# Altium footprint library 11-Fuse.PcbLib: 50 footprints (part 2 of 4)
Each footprint in its own frame and in the unit in brackets; x right, y up, seen from the top. Pads: shape width x height; smd on the part's side, far side on the other; paste and mask are expansions set on the pad; w line width, h text height; cw(c..) or ccw(c..) is an arc to the next point about the centre after c.
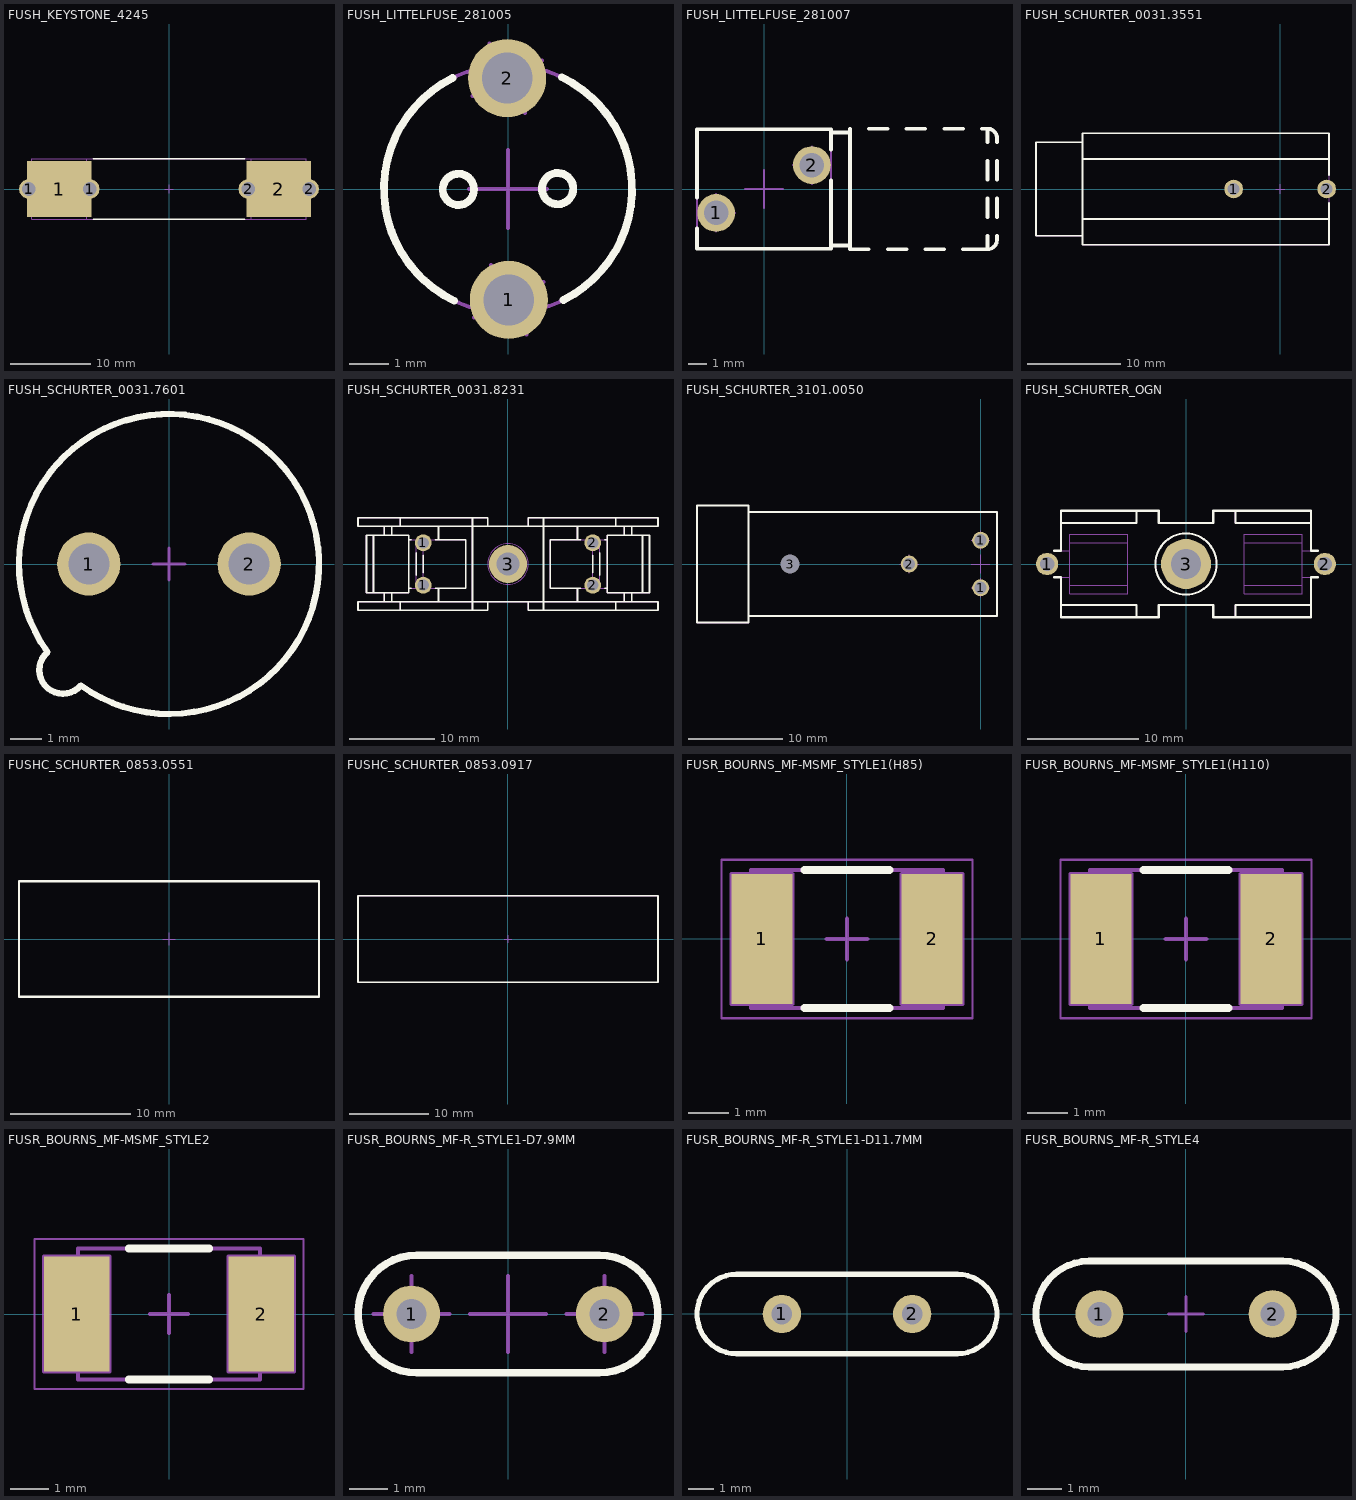
[diagram p1: the footprints below, top view; thin cyan lines are the x and y axes]

## FUSH_KEYSTONE_4245 [mm] "FUSH_KEYSTONE 4245, Fuse holder for 6..3x32mm Fuses"
height 10.92
pads (6):
  round 2.4 hole 1.7: 1(-17.463,0) 1(-9.843,0) 2(9.843,0) 2(17.463,0)
  rect 8x7 smd paste-4 mask-4: 1(-13.653,0) 2(13.653,0)
Top Overlay:
  lines w0.2: -9.4,-3.75 9.4,-3.75 ; -9.4,3.75 9.4,3.75
Mechanical 8:
  lines w0.1: -17.963,0 -17.463,0 ; -17.463,-0.5 -17.463,0 ; -17.463,0.5 -17.463,0 ; -16.963,0 -17.463,0 ; -10.343,0 -9.843,0 ; -9.843,-0.5 -9.843,0 ; -9.843,0.5 -9.843,0 ; -9.343,0 -9.843,0 ; -0.5,0 0,0 ; 0,-0.5 0,0 ; 0,0.5 0,0 ; 0.5,0 0,0 ; 9.343,0 9.843,0 ; 9.843,-0.5 9.843,0 ; 9.843,0.5 9.843,0 ; 10.343,0 9.843,0 ; 16.963,0 17.463,0 ; 17.463,-0.5 17.463,0 ; 17.463,0.5 17.463,0 ; 17.963,0 17.463,0
Mechanical 14:
  lines w0.1: -10.205,-3.75 -10.205,3.75 ; 10.205,-3.75 10.205,3.75 ; -17.1,-3.75 17.1,-3.75 17.1,3.75 -17.1,3.75 -17.1,-3.75
3D body "FUSH_KEYSTONE_4245.stp": height 12.87, standoff -3.7, extent -17.716,-3.824 17.717,3.824

## FUSH_LITTELFUSE_281005 [mm] "Vertical Fuse Holder For 6.4x8.8mm Subminiature Fuses"
height 6.65
pads (2):
  round 2 hole 1.3: 1(0.022,-2.84) 2(-0.022,2.84)
Top Overlay:
  circle w0.2: c-1.27,-0.01 r0.4
  circle w0.2: c1.27,0.01 r0.4
  lines w0.2: -1.422,2.839 ccw(c0,0) -1.378,-2.86 ; 1.378,2.86 cw(c0,0) 1.422,-2.839
Mechanical 8:
  lines w0.1: -1,0 0,0 ; -0.913,2.386 -0.022,2.84 ; -0.869,-3.294 0.022,-2.84 ; -0.476,3.731 -0.022,2.84 ; -0.432,-1.949 0.022,-2.84 ; 0,-1 0,0 ; 0,1 0,0 ; 0.432,1.949 -0.022,2.84 ; 0.476,-3.731 0.022,-2.84 ; 0.869,3.294 -0.022,2.84 ; 0.913,-2.386 0.022,-2.84 ; 1,0 0,0
Mechanical 14:
  circle w0.1: c-1.27,-0.01 r0.4
  circle w0.1: c1.27,0.01 r0.4
  lines w0.1: -0.456,3.142 ccw(c0,0) -0.089,-3.174 ; 0.089,3.174 cw(c0,0) 0.456,-3.142 ; -0.508,3.243 -0.062,3.47 0.465,2.436 0.019,2.209 -0.508,3.243 ; -0.465,-2.436 0.062,-3.47 0.508,-3.243 -0.019,-2.209 -0.465,-2.436
3D body "FUSH_LITTELFUSE_281005.stp": height 6.65, standoff -5.08, extent -3.173,-3.47 3.173,3.47
3D body "v200-130.stp": height 0.02, standoff -1.65, extent -1.022,1.84 0.978,3.84
3D body "v200-130.stp": height 0.02, standoff -1.65, extent -0.978,-3.84 1.022,-1.84

## FUSH_LITTELFUSE_281007 [mm] "Horizontal Fuse Holder For 6.4x8.8mm Subminiature Fuses"
height 6.6
pads (2):
  round 2 hole 1.3: 1(-2.54,-1.27) 2(2.54,1.27)
Top Overlay:
  lines w0.2: -3.556,-2.081 -3.556,-3.175 3.556,-3.175 3.556,0.459 ; -3.556,-0.459 -3.556,3.175 3.556,3.175 3.556,2.081 ; 3.556,-3 4.556,-3 ; 3.556,3 4.556,3 ; 4.556,3.2 4.556,-3.2 5.556,-3.2 ; 5.556,3.2 6.556,3.2 ; 6.556,-3.2 7.556,-3.2 ; 7.556,3.2 8.556,3.2 ; 8.556,-3.2 9.556,-3.2 ; 9.556,3.2 10.556,3.2 ; 10.556,-3.2 11.856,-3.2 ; 11.556,3.2 11.856,3.2 ; 11.856,-2.5 11.856,-3.2 ; 11.856,-1.5 11.856,-0.5 ; 11.856,0.5 11.856,1.5 ; 11.856,2.5 11.856,3.2 ; 12.356,-2.5 12.356,-2.7 cw(c11.856,-2.7) 11.856,-3.2 ; 12.356,-1.5 12.356,-0.5 ; 12.356,0.5 12.356,1.5 ; 12.356,2.5 12.356,2.7 ccw(c11.856,2.7) 11.856,3.2
Mechanical 8:
  lines w0.1: -3.54,-1.27 -2.54,-1.27 ; -2.54,-2.27 -2.54,-1.27 ; -2.54,-0.27 -2.54,-1.27 ; -1.54,-1.27 -2.54,-1.27 ; -1,0 0,0 ; 0,-1 0,0 ; 0,1 0,0 ; 1,0 0,0 ; 1.54,1.27 2.54,1.27 ; 2.54,0.27 2.54,1.27 ; 2.54,2.27 2.54,1.27 ; 3.54,1.27 2.54,1.27
Mechanical 14:
  lines w0.1: 3.556,-3 4.556,-3 ; 3.556,3 4.556,3 ; 4.556,3.2 4.556,-3.2 5.556,-3.2 ; 5.556,3.2 6.556,3.2 ; 6.556,-3.2 7.556,-3.2 ; 7.556,3.2 8.556,3.2 ; 8.556,-3.2 9.556,-3.2 ; 9.556,3.2 10.556,3.2 ; 10.556,-3.2 11.856,-3.2 ; 11.556,3.2 11.856,3.2 ; 11.856,-2.5 11.856,-3.2 ; 11.856,-1.5 11.856,-0.5 ; 11.856,0.5 11.856,1.5 ; 11.856,2.5 11.856,3.2 ; 12.356,-2.5 12.356,-2.7 cw(c11.856,-2.7) 11.856,-3.2 ; 12.356,-1.5 12.356,-0.5 ; 12.356,0.5 12.356,1.5 ; 12.356,2.5 12.356,2.7 ccw(c11.856,2.7) 11.856,3.2 ; -3.556,-3.175 -3.556,3.175 3.556,3.175 3.556,-3.175 -3.556,-3.175
3D body "FUSH_LITTELFUSE_281007.stp": height 6.6, standoff -5.08, extent -3.556,-3.175 3.556,3.175

## FUSH_SCHURTER_0031.3551 [mm] "SCHURTER Type FAB, Horizontal Fuse holder for 5x20mm Fuses"
height 10.16
pads (2):
  round 2 hole 1.3: 1(-5,0) 2(5,0)
Top Overlay:
  lines w0.2: -21.25,-5.03 -26.25,-5.03 -26.25,5.03 -21.25,5.03 ; -21.25,-3.224 5.25,-3.224 ; -21.25,3.224 5.25,3.224 ; 5.25,-1.5 5.25,-6 -21.25,-6 -21.25,6 5.25,6 5.25,1.5
Mechanical 8:
  lines w0.1: -5.5,0 -5,0 ; -5,-0.5 -5,0 ; -5,0.5 -5,0 ; -4.5,0 -5,0 ; -0.5,0 0,0 ; 0,-0.5 0,0 ; 0,0.5 0,0 ; 0.5,0 0,0 ; 4.5,0 5,0 ; 5,-0.5 5,0 ; 5,0.5 5,0 ; 5.5,0 5,0
Mechanical 14:
  lines w0.1: -21.25,-5.03 -26.25,-5.03 -26.25,5.03 -21.25,5.03 ; -21.25,-3.224 5.25,-3.224 ; -21.25,3.224 5.25,3.224 ; -21.25,-6 5.25,-6 5.25,6 -21.25,6 -21.25,-6
3D body "FUSH_SCHURTER_0031.3551.stp": height 10.06, standoff -5, extent -26.25,-6 5.25,6

## FUSH_SCHURTER_0031.7601 [mm] "Vertical Fuse Holder For D8.5x H 8.5mm Subminiature Fuses"
height 4.4
pads (2):
  round 2 hole 1.3: 1(-2.54,0) 2(2.54,0)
Top Overlay:
  lines w0.2: -3.846,-2.789 cw(c0,0) -2.789,-3.846 cw(c-3.359,-3.359) -3.846,-2.789
Mechanical 8:
  lines w0.1: -3.04,0 -2.54,0 ; -2.54,-0.5 -2.54,0 ; -2.54,0.5 -2.54,0 ; -2.04,0 -2.54,0 ; -0.5,0 0,0 ; 0,-0.5 0,0 ; 0,0.5 0,0 ; 0.5,0 0,0 ; 2.04,0 2.54,0 ; 2.54,-0.5 2.54,0 ; 2.54,0.5 2.54,0 ; 3.04,0 2.54,0
Mechanical 14:
  circle w0.1: c-2.54,0 r0.55
  circle w0.1: c2.54,0 r0.55
  lines w0.1: -3.846,-2.789 cw(c0,0) -2.789,-3.846 cw(c-3.359,-3.359) -3.846,-2.789
3D body "FUSH_SCHURTER_0031.7601.stp": height 4.4, standoff -3.2, extent -4.75,-4.748 4.75,4.749

## FUSH_SCHURTER_0031.8231 [mm] "SCHURTER OGD Series, Fuse holder for 5x20mm/6.3x32mm Fuses"
height 11.5
pads (5):
  round 2 hole 1.3: 1(-10,-2.5) 1(-10,2.5) 2(10,-2.5) 2(10,2.5)
  round 4.5 hole 2.7: 3(0,0)
Top Overlay:
  lines w0.2: -15.875,-3.375 -15.875,3.375 ; -14.6,-4.45 -14.6,-3.375 ; -14.6,3.375 -14.6,4.45 ; -13.7,-4.45 -13.7,-3.375 ; -13.7,3.375 -13.7,4.45 ; -12.7,-5.45 -12.7,-4.45 ; -12.7,4.45 -12.7,5.45 ; -11.7,-2.878 -11.4,-2.878 ; -11.7,2.878 -11.4,2.878 ; -10.825,-1.308 -10.825,1.308 ; -10,-1.05 -10,1.05 ; -8.6,-2.878 -5,-2.878 -5,2.878 -8.6,2.878 ; -8.2,-4.45 -8.2,-2.878 ; -8.2,2.878 -8.2,4.45 ; -4.2,-5.45 -4.2,5.45 ; 4.2,-5.45 4.2,5.45 ; 8.2,-4.45 8.2,-2.878 ; 8.2,2.878 8.2,4.45 ; 8.6,-2.878 5,-2.878 5,2.878 8.6,2.878 ; 10,-1.05 10,1.05 ; 10.825,-1.308 10.825,1.308 ; 11.4,-2.878 11.7,-2.878 ; 11.4,2.878 11.7,2.878 ; 12.7,-5.45 12.7,-4.45 ; 12.7,4.45 12.7,5.45 ; 13.7,-4.45 13.7,-3.375 ; 13.7,3.375 13.7,4.45 ; 14.6,-4.45 14.6,-3.375 ; 14.6,3.375 14.6,4.45 ; 15.875,-3.375 15.875,3.375 ; -2.4,-4.45 2.4,-4.45 ; -2.4,-4.45 -2.4,-5.45 -17.7,-5.45 -17.7,-4.45 -2.4,-4.45 ; -2.4,4.45 -17.7,4.45 -17.7,5.45 -2.4,5.45 -2.4,4.45 ; -2.4,4.45 2.4,4.45 ; 2.4,-4.45 17.7,-4.45 17.7,-5.45 2.4,-5.45 2.4,-4.45 ; 2.4,4.45 17.7,4.45 17.7,5.45 2.4,5.45 2.4,4.45 ; -16.7,-3.375 -11.7,-3.375 -11.7,3.375 -16.7,3.375 -16.7,-3.375 ; 11.7,-3.375 11.7,3.375 16.7,3.375 16.7,-3.375 11.7,-3.375
Mechanical 8:
  lines w0.1: -10.5,-2.5 -10,-2.5 ; -10.5,2.5 -10,2.5 ; -10,-3 -10,-2.5 ; -10,-2 -10,-2.5 ; -10,2 -10,2.5 ; -10,3 -10,2.5 ; -9.5,-2.5 -10,-2.5 ; -9.5,2.5 -10,2.5 ; -0.5,0 0,0 ; 0,-0.5 0,0 ; 0,0.5 0,0 ; 0.5,0 0,0 ; 9.5,-2.5 10,-2.5 ; 9.5,2.5 10,2.5 ; 10,-3 10,-2.5 ; 10,-2 10,-2.5 ; 10,2 10,2.5 ; 10,3 10,2.5 ; 10.5,-2.5 10,-2.5 ; 10.5,2.5 10,2.5
Mechanical 14:
  circle w0.1: c0,0 r2.4
  circle w0.1: c0,0 r1.35
  lines w0.1: -15.875,-3.375 -15.875,3.375 ; -14.6,-4.45 -14.6,-3.375 ; -14.6,3.375 -14.6,4.45 ; -13.7,-4.45 -13.7,-3.375 ; -13.7,3.375 -13.7,4.45 ; -12.7,-5.45 -12.7,-4.45 ; -12.7,4.45 -12.7,5.45 ; -11.7,-2.878 -10.825,-2.878 ; -11.7,2.878 -10.825,2.878 ; -10,-2.896 -10,2.878 ; -8.2,-4.45 -8.2,-2.878 ; -8.2,2.878 -8.2,4.45 ; -4.2,-5.45 -4.2,5.45 ; 4.2,-5.45 4.2,5.45 ; 8.2,-4.45 8.2,-2.878 ; 8.2,2.878 8.2,4.45 ; 10,-2.896 10,2.878 ; 11.7,-2.878 10.825,-2.878 ; 11.7,2.878 10.825,2.878 ; 12.7,-5.45 12.7,-4.45 ; 12.7,4.45 12.7,5.45 ; 13.7,-4.45 13.7,-3.375 ; 13.7,3.375 13.7,4.45 ; 14.6,-4.45 14.6,-3.375 ; 14.6,3.375 14.6,4.45 ; 15.875,-3.375 15.875,3.375 ; -10.825,-2.878 -5,-2.878 -5,2.878 -10.825,2.878 ; -10.825,-2.878 -10.825,2.878 ; -2.4,-4.45 2.4,-4.45 ; -2.4,-4.45 -2.4,-5.45 -17.7,-5.45 -17.7,-4.45 -2.4,-4.45 ; -2.4,4.45 -17.7,4.45 -17.7,5.45 -2.4,5.45 -2.4,4.45 ; -2.4,4.45 2.4,4.45 ; 2.4,-4.45 17.7,-4.45 17.7,-5.45 2.4,-5.45 2.4,-4.45 ; 2.4,4.45 17.7,4.45 17.7,5.45 2.4,5.45 2.4,4.45 ; 10.825,-2.878 5,-2.878 5,2.878 10.825,2.878 ; 10.825,-2.878 10.825,2.878 ; -16.7,-3.375 -11.7,-3.375 -11.7,3.375 -16.7,3.375 -16.7,-3.375 ; 11.7,-3.375 11.7,3.375 16.7,3.375 16.7,-3.375 11.7,-3.375
3D body "FUSH_SCHURTER_0031.8231.stp": height 12.7, standoff -3.13, extent -17.7,-5.45 17.7,5.45

## FUSH_SCHURTER_3101.0050 [mm] "SCHURTER Type FPG5, Horizontal Fuse holder for 5x20mm Fuses"
height 12.7
pads (4):
  round 1.8 hole 1.3: 1(0,-2.54) 1(0,2.54) 2(-7.62,0)
  round 1.8 hole 2 unplated mask+0.2: 3(-20.32,0)
Top Overlay:
  lines w0.2: -24.75,-5.55 1.75,-5.55 1.75,5.55 -24.75,5.55 ; -30.25,-6.25 -24.75,-6.25 -24.75,6.25 -30.25,6.25 -30.25,-6.25
Mechanical 8:
  lines w0.1: -21.32,0 -20.32,0 ; -20.32,-1 -20.32,0 ; -20.32,1 -20.32,0 ; -19.32,0 -20.32,0 ; -8.62,0 -7.62,0 ; -7.62,-1 -7.62,0 ; -7.62,1 -7.62,0 ; -6.62,0 -7.62,0 ; -1,-2.54 0,-2.54 ; -1,0 0,0 ; -1,2.54 0,2.54 ; 0,-3.54 0,-2.54 ; 0,-1.54 0,-2.54 ; 0,-1 0,0 ; 0,1 0,0 ; 0,1.54 0,2.54 ; 0,3.54 0,2.54 ; 1,-2.54 0,-2.54 ; 1,0 0,0 ; 1,2.54 0,2.54
Mechanical 14:
  lines w0.1: -24.75,-5.55 1.75,-5.55 1.75,5.55 -24.75,5.55 ; -30.25,-6.25 -24.75,-6.25 -24.75,6.25 -30.25,6.25 -30.25,-6.25
3D body "FUSH_SCHURTER_3101.0050.stp": height 12.7, standoff -3.6, extent -30.25,-6.25 1.75,6.25

## FUSH_SCHURTER_OGN [mm] "SCHURTER OGN Series, Fuse holder for 5x20mm Fuses"
height 11.5
pads (3):
  round 2 hole 1.3: 1(-12.5,0) 2(12.5,0)
  round 4.5 hole 2.7: 3(0,0)
Top Overlay:
  circle w0.2: c0,0 r2.75
  lines w0.2: -11.85,-1.2 -11.25,-1.2 -11.25,-4.8 -2.45,-4.8 -2.45,-3.7 2.45,-3.7 2.45,-4.8 11.25,-4.8 ; -11.85,1.2 -11.25,1.2 -11.25,4.8 -2.45,4.8 -2.45,3.7 2.45,3.7 2.45,4.8 11.25,4.8 11.25,1.2 11.85,1.2 ; -11.25,-3.7 -4.45,-3.7 -4.45,-4.8 ; -11.25,3.7 -4.45,3.7 -4.45,4.8 ; 4.45,-4.8 4.45,-3.7 11.25,-3.7 11.25,-4.8 ; 4.45,4.8 4.45,3.7 11.25,3.7 ; 11.85,-1.2 11.25,-1.2 11.25,-4.8
Mechanical 14:
  circle w0.1: c0,0 r2.75
  lines w0.1: -11.85,-1.2 -10.45,-1.2 ; -11.85,1.2 -10.45,1.2 -10.45,0 ; -11.25,-3.7 -4.45,-3.7 -4.45,-4.8 ; -11.25,-1.2 -11.25,-4.8 -2.45,-4.8 -2.45,-3.7 2.45,-3.7 2.45,-4.8 11.25,-4.8 ; -11.25,1.2 -11.25,4.8 -2.45,4.8 -2.45,3.7 2.45,3.7 2.45,4.8 11.25,4.8 11.25,1.2 ; -11.25,3.7 -4.45,3.7 -4.45,4.8 ; -10.45,-1.9 -5.25,-1.9 ; -10.45,1.9 -5.25,1.9 ; 4.45,-4.8 4.45,-3.7 11.25,-3.7 11.25,-4.8 ; 4.45,4.8 4.45,3.7 11.25,3.7 ; 5.25,-1.9 10.45,-1.9 ; 5.25,1.9 10.45,1.9 ; 10.45,0 10.45,-1.2 11.85,-1.2 ; 10.45,1.2 11.85,1.2 ; 11.25,-1.2 11.25,-4.8 ; -10.45,-2.7 -5.25,-2.7 -5.25,2.7 -10.45,2.7 -10.45,-2.7 ; 5.25,-2.7 10.45,-2.7 10.45,2.7 5.25,2.7 5.25,-2.7
3D body: height 2.5, standoff -3, extent -12.8,-0.4 -12.575,0.4
3D body "FUSH_SCHURTER_OGN.stp": height 11.5, standoff -3.8, extent -12.65,-4.8 12.65,4.8

## FUSHC_SCHURTER_0853.0551 [mm] "Cover for Fuse Holder OGN, OGN-SMD"
height 14.7
Top Overlay:
  lines w0.2: -12.5,-4.8 -12.5,4.8 12.5,4.8 12.5,-4.8 -12.5,-4.8
Mechanical 8:
  lines w0.1: -0.5,0 0,0 ; 0,-0.5 0,0 ; 0,0.5 0,0 ; 0.5,0 0,0
Mechanical 14:
  lines w0.1: -12.5,-4.8 -12.5,4.8 12.5,4.8 12.5,-4.8 -12.5,-4.8
3D body "FUSHC_SCHURTER_0853.0551.stp": height 12.5, standoff 0, extent -12.5,-4.8 12.5,4.8

## FUSHC_SCHURTER_0853.0917 [mm] "Cover for Fuse Holder OGD, OGD-SMD"
height 14.7
Top Overlay:
  lines w0.2: -18.9,-5.45 -18.9,5.45 18.9,5.45 18.9,-5.45 -18.9,-5.45
Mechanical 8:
  lines w0.1: -0.5,0 0,0 ; 0,-0.5 0,0 ; 0,0.5 0,0 ; 0.5,0 0,0
Mechanical 14:
  lines w0.1: -18.9,-5.45 -18.9,5.45 18.9,5.45 18.9,-5.45 -18.9,-5.45
3D body "FUSHC_SCHURTER_0853.0917.stp": height 14.8, standoff 0.1, extent -18.9,-5.45 18.9,5.45

## FUSR_BOURNS_MF-MSMF_STYLE1(H85) [mm] "PTC Resettable Fuse, MF-MSMS Series, Case Style 1 Height 0.85mm"
height 0.85
pads (2):
  rect 1.5x3.2 smd: 1(-2.1,0) 2(2.1,0)
Top Overlay:
  lines w0.2: -1.05,-1.705 1.05,-1.705 ; -1.05,1.705 1.05,1.705
Mechanical 8:
  lines w0.1: -2.6,0 -2.1,0 ; -2.1,-0.5 -2.1,0 ; -2.1,0.5 -2.1,0 ; -1.6,0 -2.1,0 ; -0.5,0 0,0 ; 0,-0.5 0,0 ; 0,0.5 0,0 ; 0.5,0 0,0 ; 1.465,0 2.1,0 ; 1.6,0 2.1,0 ; 2.1,-0.5 2.1,0 ; 2.1,0.5 2.1,0 ; 2.6,0 2.1,0 ; -2.85,-1.6 -2.85,1.6 -1.35,1.6 -1.35,-1.6 -2.85,-1.6 ; 1.35,-1.6 1.35,1.6 2.85,1.6 2.85,-1.6 1.35,-1.6
Mechanical 14:
  lines w0.1: -2.365,-0.592 -2.265,-0.592 -2.265,-1.605 -1.365,-1.605 -1.365,1.605 -2.265,1.605 -2.265,0.592 -2.365,0.592 ; 2.365,-0.592 2.265,-0.592 2.265,-1.605 1.365,-1.605 1.365,1.605 2.265,1.605 2.265,0.592 2.365,0.592 ; -2.365,-1.705 -2.365,-0.5 ccw(c-2.365,0) -2.365,0.5 -2.365,1.705 2.365,1.705 2.365,0.5 ccw(c2.365,0) 2.365,-0.5 2.365,-1.705 -2.365,-1.705
Mechanical 15:
  lines w0.05: -3.1,-1.955 -3.1,1.955 3.1,1.955 3.1,-1.955 -3.1,-1.955
3D body "p320-150.stp": height 0.02, standoff 0, extent 1.35,-1.6 2.85,1.6
3D body "p320-150.stp": height 0.02, standoff 0, extent -2.85,-1.6 -1.35,1.6
3D body "FUSR_BOURNS_MF-MSMF_STYLE1(H85).stp": height 0.85, standoff 0, extent -2.365,-1.705 2.365,1.705

## FUSR_BOURNS_MF-MSMF_STYLE1(H110) [mm] "PTC Resettable Fuse, MF-MSMS Series, Case Style 1 Height 1.10mm"
height 1.1
pads (2):
  rect 1.5x3.2 smd: 1(-2.1,0) 2(2.1,0)
Top Overlay:
  lines w0.2: -1.05,-1.705 1.05,-1.705 ; -1.05,1.705 1.05,1.705
Mechanical 8:
  lines w0.1: -2.6,0 -2.1,0 ; -2.1,-0.5 -2.1,0 ; -2.1,0.5 -2.1,0 ; -1.6,0 -2.1,0 ; -0.5,0 0,0 ; 0,-0.5 0,0 ; 0,0.5 0,0 ; 0.5,0 0,0 ; 1.465,0 2.1,0 ; 1.6,0 2.1,0 ; 2.1,-0.5 2.1,0 ; 2.1,0.5 2.1,0 ; 2.6,0 2.1,0 ; -2.85,-1.6 -2.85,1.6 -1.35,1.6 -1.35,-1.6 -2.85,-1.6 ; 1.35,-1.6 1.35,1.6 2.85,1.6 2.85,-1.6 1.35,-1.6
Mechanical 14:
  lines w0.1: -2.365,-0.592 -2.265,-0.592 -2.265,-1.605 -1.365,-1.605 -1.365,1.605 -2.265,1.605 -2.265,0.592 -2.365,0.592 ; 2.365,-0.592 2.265,-0.592 2.265,-1.605 1.365,-1.605 1.365,1.605 2.265,1.605 2.265,0.592 2.365,0.592 ; -2.365,-1.705 -2.365,-0.5 ccw(c-2.365,0) -2.365,0.5 -2.365,1.705 2.365,1.705 2.365,0.5 ccw(c2.365,0) 2.365,-0.5 2.365,-1.705 -2.365,-1.705
Mechanical 15:
  lines w0.05: -3.1,-1.955 -3.1,1.955 3.1,1.955 3.1,-1.955 -3.1,-1.955
3D body "FUSR_BOURNS_MF-MSMF_STYLE1(H110).stp": height 1.1, standoff 0, extent -2.365,-1.705 2.365,1.705
3D body "p320-150.stp": height 0.02, standoff 0, extent 1.35,-1.6 2.85,1.6
3D body "p320-150.stp": height 0.02, standoff 0, extent -2.85,-1.6 -1.35,1.6

## FUSR_BOURNS_MF-MSMF_STYLE2 [mm] "PTC Resettable Fuse, MF-MSMS Series, Case Style 2"
height 1.6
pads (2):
  rect 1.7x3 smd: 1(-2.4,0) 2(2.4,0)
Top Overlay:
  lines w0.2: -1.05,-1.705 1.05,-1.705 ; -1.05,1.705 1.05,1.705
Mechanical 8:
  lines w0.1: -2.9,0 -2.4,0 ; -2.4,-0.5 -2.4,0 ; -2.4,0.5 -2.4,0 ; -1.9,0 -2.4,0 ; -0.5,0 0,0 ; 0,-0.5 0,0 ; 0,0.5 0,0 ; 0.5,0 0,0 ; 1.9,0 2.4,0 ; 2.4,-0.5 2.4,0 ; 2.4,0.5 2.4,0 ; 2.9,0 2.4,0 ; -3.25,-1.5 -1.55,-1.5 -1.55,1.5 -3.25,1.5 -3.25,-1.5 ; 1.55,-1.5 3.25,-1.5 3.25,1.5 1.55,1.5 1.55,-1.5
Mechanical 14:
  lines w0.1: -2.365,-0.592 ccw(c-2.365,0) -2.365,0.592 ; 2.365,-0.592 cw(c2.365,0) 2.365,0.592 ; -2.365,-1.705 2.365,-1.705 2.365,-0.5 cw(c2.365,0) 2.365,0.5 2.365,1.705 -2.365,1.705 -2.365,0.5 cw(c-2.365,0) -2.365,-0.5 -2.365,-1.705
Mechanical 15:
  lines w0.05: -3.5,-1.955 3.5,-1.955 3.5,1.955 -3.5,1.955 -3.5,-1.955
3D body "FUSR_BOURNS_MF-MSMF_STYLE2.stp": height 1.6, standoff 0, extent -2.365,-1.705 2.365,1.705
3D body "p300-170.stp": height 0.02, standoff 0, extent -3.25,-1.5 -1.55,1.5
3D body "p300-170.stp": height 0.02, standoff 0, extent 1.55,-1.5 3.25,1.5

## FUSR_BOURNS_MF-R_STYLE1-D7.9MM [mm] "PTC Resettable Fuse, MF-R Series, Case style 1 Diametre 7.9mm"
height 13.7
pads (2):
  round 1.5 hole 0.8: 1(-2.54,0) 2(2.54,0)
Top Overlay:
  lines w0.2: -2.4,-1.55 cw(c-2.4,0) -2.4,1.55 2.4,1.55 cw(c2.4,0) 2.4,-1.55 -2.4,-1.55
Mechanical 8:
  lines w0.1: -3.54,0 -2.54,0 ; -2.54,-1 -2.54,0 ; -2.54,1 -2.54,0 ; -1.54,0 -2.54,0 ; -1,0 0,0 ; 0,-1 0,0 ; 0,1 0,0 ; 1,0 0,0 ; 1.54,0 2.54,0 ; 2.54,-1 2.54,0 ; 2.54,1 2.54,0 ; 3.54,0 2.54,0
Mechanical 14:
  lines w0.1: -2.4,-1.55 cw(c-2.4,0) -2.4,1.55 2.4,1.55 cw(c2.4,0) 2.4,-1.55 -2.4,-1.55
3D body "FUSR_BOURNS_MF-R_STYLE1-D7.9MM.stp": height 13.7, standoff -3.6, extent -3.948,-1.55 3.949,1.55
3D body "v150-080.stp": height 0.02, standoff -1.65, extent -3.29,-0.75 -1.79,0.75
3D body "v150-080.stp": height 0.02, standoff -1.65, extent 1.79,-0.75 3.29,0.75

## FUSR_BOURNS_MF-R_STYLE1-D11.7MM [mm] "PTC Resettable Fuse, MF-R Series, Case style 1 Diametre 11.7mm"
height 16.7
pads (2):
  round 1.5 hole 0.8: 1(-2.54,0) 2(2.54,0)
Top Overlay:
  lines w0.2: -4.3,-1.55 cw(c-4.3,0) -4.3,1.55 4.3,1.55 cw(c4.3,0) 4.3,-1.55 -4.3,-1.55
Mechanical 14:
  lines w0.1: -4.3,-1.55 cw(c-4.3,0) -4.3,1.55 4.3,1.55 cw(c4.3,0) 4.3,-1.55 -4.3,-1.55
3D body "FUSR_BOURNS_MF-R_STYLE1-D11.7MM.stp": height 16.7, standoff -3.6, extent -5.845,-1.55 5.846,1.55
3D body "v150-080.stp": height 0.02, standoff -1.65, extent -3.29,-0.75 -1.79,0.75
3D body "v150-080.stp": height 0.02, standoff -1.65, extent 1.79,-0.75 3.29,0.75

## FUSR_BOURNS_MF-R_STYLE4 [mm] "PTC Resettable Fuse, MF-R Series, Case style 4"
height 8.3
pads (2):
  round 1.4 hole 0.7: 1(-2.54,0) 2(2.54,0)
Top Overlay:
  lines w0.2: -2.85,-1.55 cw(c-2.85,0) -2.85,1.55 2.85,1.55 cw(c2.85,0) 2.85,-1.55 -2.85,-1.55
Mechanical 8:
  lines w0.1: -3.04,0 -2.54,0 ; -2.54,-0.5 -2.54,0 ; -2.54,0.5 -2.54,0 ; -2.04,0 -2.54,0 ; -0.5,0 0,0 ; 0,-0.5 0,0 ; 0,0.5 0,0 ; 0.5,0 0,0 ; 2.04,0 2.54,0 ; 2.54,-0.5 2.54,0 ; 2.54,0.5 2.54,0 ; 3.04,0 2.54,0
Mechanical 14:
  circle w0.1: c2.54,0 r0.202
  lines w0.1: -2.85,-1.55 cw(c-2.85,0) -2.85,1.55 2.85,1.55 cw(c2.85,0) 2.85,-1.55 -2.85,-1.55
3D body "FUSR_BOURNS_MF-R_STYLE4.stp": height 8.3, standoff -3.2, extent -4.38,-1.55 4.38,1.55
3D body "v150-080.stp": height 0.02, standoff -1.65, extent -3.29,-0.75 -1.79,0.75
3D body "v150-080.stp": height 0.02, standoff -1.65, extent 1.79,-0.75 3.29,0.75